# Altium schematic symbol library IC-Terminus.SchLib: 2 symbols
Pins are listed as number, name and electrical type; pins without a type are passive.

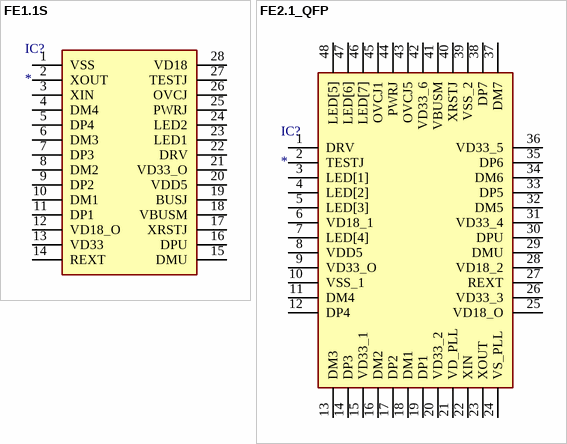
[diagram p0: symbols FE1.1S to FE2.1_QFP]

## FE1.1S
designator IC?
USB2.0 Hub 4口芯片; Manufacturer_Name: TERMINUS; Manufacturer_Part_Number: FE1.1S-BSOP28BCN; LCSC: C9359
footprint SSOP-28N-150MIL
pins: 1 VSS, 2 XOUT, 3 XIN, 4 DM4, 5 DP4, 6 DM3, 7 DP3, 8 DM2, 9 DP2, 10 DM1, 11 DP1, 12 VD18_O, 13 VD33, 14 REXT, 15 DMU, 16 DPU, 17 XRSTJ, 18 VBUSM, 19 BUSJ, 20 VDD5, 21 VD33_O, 22 DRV, 23 LED1, 24 LED2, 25 PWRJ, 26 OVCJ, 27 TESTJ, 28 VD18

## FE2.1_QFP
designator IC?
USB2.0 Hub 8口芯片; Manufacturer_Name: Terminus Technology; Manufacturer_Part_Number: FE2.1_QFP; LCSC: C39693
footprint LQFP48-48_7x7 (TSQFP, 48-Leads, Body 7.00x7.00mm, Pitch 0.50mm, IPC Medium Density)
pins: 1 DRV, 2 TESTJ, 3 LED[1], 4 LED[2], 5 LED[3], 6 VD18_1, 7 LED[4], 8 VDD5, 9 VD33_O, 10 VSS_1, 11 DM4, 12 DP4, 13 DM3, 14 DP3, 15 VD33_1, 16 DM2, 17 DP2, 18 DM1, 19 DP1, 20 VD33_2, 21 VD_PLL, 22 XIN, 23 XOUT, 24 VS_PLL, 25 VD18_O, 26 VD33_3, 27 REXT, 28 VD18_2, 29 DMU, 30 DPU, 31 VD33_4, 32 DM5, 33 DP5, 34 DM6, 35 DP6, 36 VD33_5, 37 DM7, 38 DP7, 39 VSS_2, 40 XRSTJ, 41 VBUSM, 42 VD33_6, 43 OVCJ5, 44 PWRJ, 45 OVCJ1, 46 LED[7], 47 LED[6], 48 LED[5]